# EAGLE library part TRSF3221E (library Bauteile)
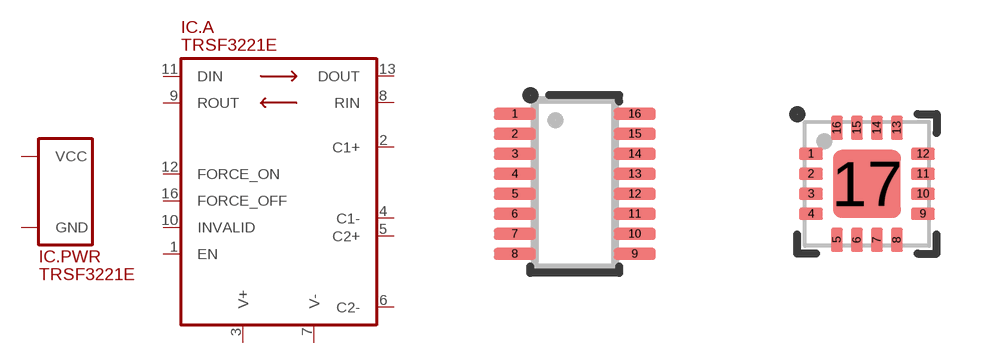
[diagram p206: symbol with the pads of SOT23-16; footprints SOT23-16, QFN16-0.5]

Designator prefix IC; gates .PWR=SUPPLY_VCC/GND .A=TRSF3221E

## TRSF3221E(SOT23-16)  [SOT23-16]
1  .A:EN
2  .A:C1+
3  .A:V+
4  .A:C1-
5  .A:C2+
6  .A:C2-
7  .A:V-
8  .A:RIN
9  .A:ROUT
10  .A:INVALID
11  .A:DIN
12  .A:FORCE_ON
13  .A:DOUT
14  .PWR:GND
15  .PWR:VCC
16  .A:FORCE_OFF

## TRSF3221E(QFN16-0.5)  [QFN16-0.5]
1  .A:C1-
2  .A:C2+
3  .A:C2-
4  .A:V-
5  .A:RIN
6  .A:ROUT
7  .A:INVALID
8  .A:DIN
9  .A:FORCE_ON
10  .A:DOUT
11  .PWR:GND
12  .PWR:VCC
13  .A:FORCE_OFF
14  .A:EN
15  .A:V+
16  .A:C1+
17  .PWR:GND

## Footprint SOT23-16 (pad centres in mm)
smd 1.05 x 0.3: 1 -1.5,1.75; 2 -1.5,1.25; 3 -1.5,0.75; 4 -1.5,0.25; 5 -1.5,-0.25; 6 -1.5,-0.75; 7 -1.5,-1.25; 8 -1.5,-1.75; 9 1.5,-1.75; 10 1.5,-1.25; 11 1.5,-0.75; 12 1.5,-0.25; 13 1.5,0.25; 14 1.5,0.75; 15 1.5,1.25; 16 1.5,1.75

## Footprint QFN16-0.5 (pad centres in mm)
smd 0.6 x 0.3: 1 -1.4,0.75; 2 -1.4,0.25; 3 -1.4,-0.25; 4 -1.4,-0.75; 9 1.4,-0.75; 10 1.4,-0.25; 11 1.4,0.25; 12 1.4,0.75
smd 0.3 x 0.6: 5 -0.75,-1.4; 6 -0.25,-1.4; 7 0.25,-1.4; 8 0.75,-1.4; 13 0.75,1.4; 14 0.25,1.4; 15 -0.25,1.4; 16 -0.75,1.4
smd 1.7 x 1.7: 17 0,0